# Altium schematic symbol library 2-DIP-RCL.SchLib: 11 symbols
Pins are listed as number, name and electrical type; pins without a type are passive.

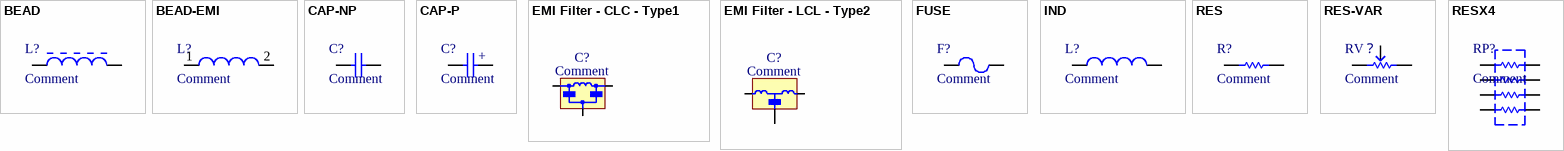
[diagram p0: symbols BEAD to RESX4]

## BEAD
designator L?, comment Comment
pins: 1, 2

## BEAD-EMI
designator L?, comment Comment
pins: 1, 2

## CAP-NP
designator C?, comment Comment
pins: 1, 2

## CAP-P
designator C?, comment Comment
pins: 1, 2
text: +

## EMI Filter - CLC - Type1
designator C?, comment Comment
pins: 1, 2, G

## EMI Filter - LCL - Type2
designator C?, comment Comment
pins: 1, 2, 3

## FUSE
designator F?, comment Comment
pins: 1, 2

## IND
designator L?, comment Comment
pins: 1, 2

## RES
designator R?, comment Comment
pins: 1, 2

## RES-VAR
designator RV？, comment Comment
pins: 1, 2, 3

## RESX4
designator RP?, comment Comment
pins: 1, 2, 3, 4, 5, 6, 7, 8